# EAGLE library part MICRO_SD (library glacsweb)
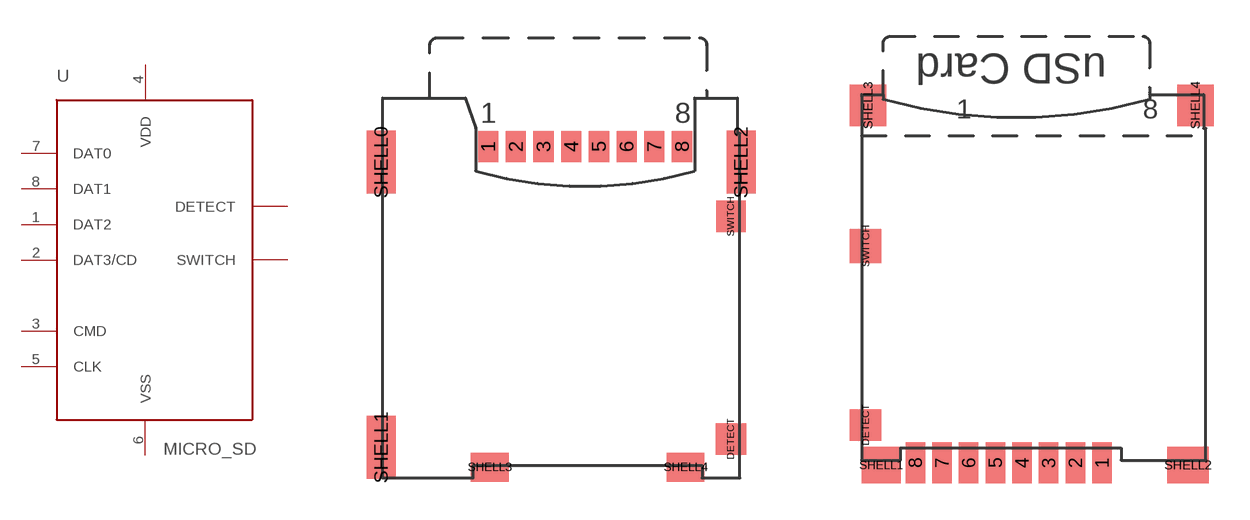
[diagram p9: symbol with the pads of MICRO_SD-MOLEX_503182-0853; footprints MICRO_SD-MOLEX_503182-0853, MICRO_SD-MOLEX_502774-0891]

Designator prefix -

## MICRO_SD_MOLEX_503182-0853 (MANUFACTURER: MOLEX; MPN: 503182-0853; OC_FARNEL: 2064061; PACKAGE: Pins in Entry)  [MICRO_SD-MOLEX_503182-0853]
1  DAT2
2  DAT3/CD
3  CMD
4  VDD  pwr
5  CLK
6  VSS  pwr
7  DAT0
8  DAT1
DETECT  DETECT
SWITCH  SWITCH

## MICRO_SD-MOLEX_502774-0891 (MANUFACTURER: Molex; MPN: 502774-0891; OC_FARNEL: 2064063; PACKAGE: Pins on Edge)  [MICRO_SD-MOLEX_502774-0891]
Pads as for MICRO_SD-MOLEX_503182-0853

## Footprint MICRO_SD-MOLEX_503182-0853 (pad centres in mm)
Created from drawings at: http://www.molex.com/pdm_docs/sd/5031820853_sd.pdf
smd 0.8 x 1.24: 1 0.4,-0.625; 2 1.5,-0.625; 3 2.6,-0.625; 4 3.7,-0.625; 5 4.8,-0.625; 6 5.9,-0.625; 7 7,-0.625; 8 8.1,-0.625
smd 1.2 x 1.25: DETECT 10.045,-12.25
smd 1.15 x 2.5: SHELL0 -3.845,-1.25; SHELL1 -3.845,-12.58; SHELL2 10.445,-1.25
smd 1.5 x 1.15: SHELL3 0.46,-13.375; SHELL4 8.24,-13.375
smd 1.16 x 1.25: SWITCH 10.045,-3.4

## Footprint MICRO_SD-MOLEX_502774-0891 (pad centres in mm)
smd 0.8 x 1.68: 1 9.11,0.09; 2 8.01,0.09; 3 6.91,0.09; 4 5.81,0.09; 5 4.71,0.09; 6 3.61,0.09; 7 2.51,0.09; 8 1.41,0.09
smd 1.29 x 1.3: DETECT -0.645,1.65
smd 1.6 x 1.5: SHELL1 0,0
smd 1.7 x 1.5: SHELL2 12.66,0
smd 1.5 x 1.7: SHELL3 -0.54,14.85; SHELL4 12.96,14.85
smd 1.29 x 1.4: SWITCH -0.645,9.05